# EAGLE library part KYOCERA-5804-10 (library m_connector)
10-pin board-to-board connector, 0.4mm pitch See http://www.mouser.com/ds/2/40/5804-1016871.pdf
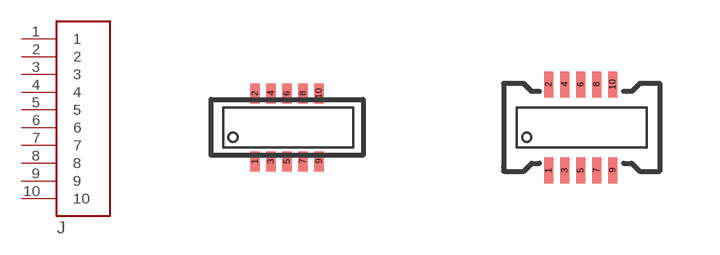
[diagram p17: symbol with the pads of KYOCERA-5804-10-PLUG; footprints KYOCERA-5804-10-PLUG, KYOCERA-5804-10-RECEPTACLE]

Designator prefix J

## KYOCERA-5804-10PLUG (MANUF: AVX; PARTNUM: 145804010000829+)  [KYOCERA-5804-10-PLUG]
1  1
2  2
3  3
4  4
5  5
6  6
7  7
8  8
9  9
10  10

## KYOCERA-5804-10RECEPTACLE (MANUF: AVX; PARTNUM: 245804010000829+)  [KYOCERA-5804-10-RECEPTACLE]
Pads as for KYOCERA-5804-10-PLUG

## Footprint KYOCERA-5804-10-PLUG (pad centres in mm)
smd 0.23 x 0.5: 1 -0.8,-0.85; 2 -0.8,0.85; 3 -0.4,-0.85; 4 -0.4,0.85; 5 0,-0.85; 6 0,0.85; 7 0.4,-0.85; 8 0.4,0.85; 9 0.8,-0.85; 10 0.8,0.85

## Footprint KYOCERA-5804-10-RECEPTACLE (pad centres in mm)
smd 0.23 x 0.65: 1 -0.77,-1.075; 2 -0.77,1.075; 3 -0.37,-1.075; 4 -0.37,1.075; 5 0.03,-1.075; 6 0.03,1.075; 7 0.43,-1.075; 8 0.43,1.075; 9 0.83,-1.075; 10 0.83,1.075